# Altium schematic symbol library SH1106.SchLib: 1 symbol
Pins are listed as number, name and electrical type; pins without a type are passive.

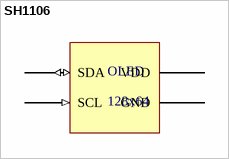
[diagram p0: symbol SH1106]

## SH1106
designator OLED, comment 128x64
pins: GND (power), SCL (in), SDA (io), VDD (power)